# Altium footprint library GPSDevice.PcbLib: 30 footprints (part 2 of 2)
Each footprint in its own frame and in the unit in brackets; x right, y up, seen from the top. Pads: shape width x height; smd on the part's side, far side on the other; paste and mask are expansions set on the pad; w line width, h text height; cw(c..) or ccw(c..) is an arc to the next point about the centre after c.
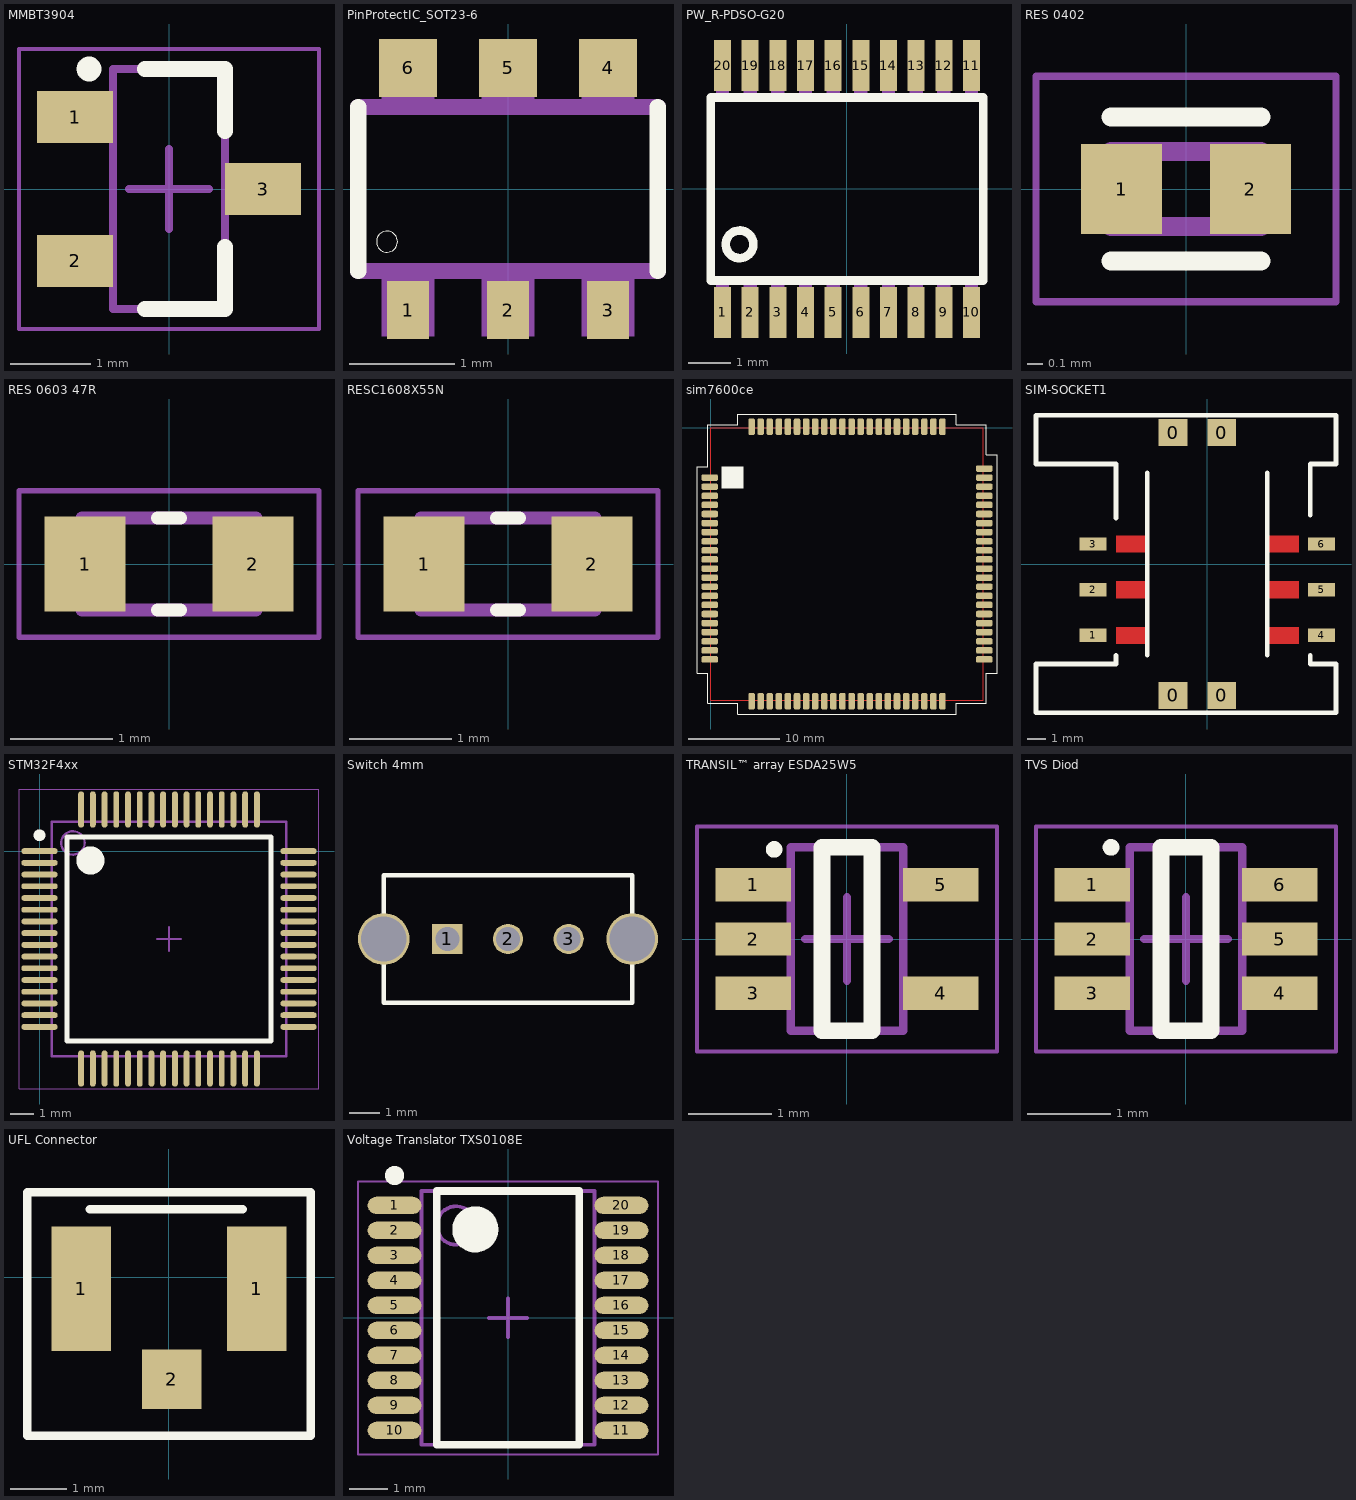
[diagram p1: the footprints below, top view; thin cyan lines are the x and y axes]

## MMBT3904 [mm] "40V NPN SMALL SIGNAL TRANSISTOR IN SOT23"
height 1.1
pads (3):
  rect 0.95x0.65 smd: 1(-1.175,0.9) 2(-1.175,-0.9) 3(1.175,0)
Top Overlay:
  circle w0.15: c-1,1.5 r0.08
  lines w0.2: -0.3,-1.5 0.7,-1.5 0.7,-0.725 ; -0.3,1.5 0.7,1.5 0.7,0.725
Mechanical 13:
  lines w0.1: -0.7,-1.5 -0.7,1.5 0.7,1.5 0.7,-1.5 -0.7,-1.5
Mechanical 15:
  lines w0.05: -1.875,-1.75 -1.875,1.75 1.875,1.75 1.875,-1.75 -1.875,-1.75
  lines w0.1: -0.5,0 0.5,0 ; 0,-0.5 0,0.5
3D body: height 1.1, standoff 0.01, extent -0.7,-1.5 0.7,1.5

## PinProtectIC_SOT23-6 [mm]
pads (6):
  rect 0.4x0.55 smd: 1(-0.95,-1.15) 2(0,-1.15) 3(0.95,-1.15)
  rect 0.55x0.55 smd: 4(0.95,1.15) 5(0,1.15) 6(-0.95,1.15)
Top Overlay:
  circle w0: c-1.15,-0.5 r0.1
  lines w0.152: -1.423,-0.781 -1.423,0.781 ; 1.422,-0.781 1.422,0.781
Mechanical 13:
  region: -0.7,-1.4 -1.2,-1.4 -1.2,-0.8 -0.7,-0.8
  region: 0.25,-1.4 -0.25,-1.4 -0.25,-0.8 0.25,-0.8
  region: 1.2,-1.4 0.7,-1.4 0.7,-0.8 1.2,-0.8
  region: 1.2,0.8 0.7,0.8 0.7,1.4 1.2,1.4
  region: 0.25,0.8 -0.25,0.8 -0.25,1.4 0.25,1.4
  region: -0.7,0.8 -1.2,0.8 -1.2,1.4 -0.7,1.4
  lines w0.152: -1.423,-0.781 1.422,-0.781 ; -1.423,0.781 1.422,0.781

## PW_R-PDSO-G20 [mm]
pads (20):
  rect 0.4x1.2 smd: 1(-2.925,-2.9) 2(-2.275,-2.9) 3(-1.625,-2.9) 4(-0.975,-2.9) 5(-0.325,-2.9) 6(0.325,-2.9) 7(0.975,-2.9) 8(1.625,-2.9) 9(2.275,-2.9) 10(2.925,-2.9) 11(2.925,2.9) 12(2.275,2.9) 13(1.625,2.9) 14(0.975,2.9) 15(0.325,2.9) 16(-0.325,2.9) 17(-0.975,2.9) 18(-1.625,2.9) 19(-2.275,2.9) 20(-2.925,2.9)
Top Overlay:
  circle w0.203: c-2.525,-1.3 r0.325
  lines w0.203: -3.2,-2.15 3.2,-2.15 3.2,2.15 -3.2,2.15 -3.2,-2.15
Mechanical 13:
  region: -2.775,-3.3 -3.075,-3.3 -3.075,-2.23 -2.775,-2.23
  region: -2.125,-3.3 -2.425,-3.3 -2.425,-2.23 -2.125,-2.23
  region: -1.475,-3.3 -1.775,-3.3 -1.775,-2.23 -1.475,-2.23
  region: -0.825,-3.3 -1.125,-3.3 -1.125,-2.23 -0.825,-2.23
  region: -0.175,-3.3 -0.475,-3.3 -0.475,-2.23 -0.175,-2.23
  region: 0.475,-3.3 0.175,-3.3 0.175,-2.23 0.475,-2.23
  region: 1.125,-3.3 0.825,-3.3 0.825,-2.23 1.125,-2.23
  region: 1.775,-3.3 1.475,-3.3 1.475,-2.23 1.775,-2.23
  region: 2.425,-3.3 2.125,-3.3 2.125,-2.23 2.425,-2.23
  region: 3.075,-3.3 2.775,-3.3 2.775,-2.23 3.075,-2.23
  region: 3.075,2.23 2.775,2.23 2.775,3.3 3.075,3.3
  region: 2.425,2.23 2.125,2.23 2.125,3.3 2.425,3.3
  region: 1.775,2.23 1.475,2.23 1.475,3.3 1.775,3.3
  region: 1.125,2.23 0.825,2.23 0.825,3.3 1.125,3.3
  region: 0.475,2.23 0.175,2.23 0.175,3.3 0.475,3.3
  region: -0.175,2.23 -0.475,2.23 -0.475,3.3 -0.175,3.3
  region: -0.825,2.23 -1.125,2.23 -1.125,3.3 -0.825,3.3
  region: -1.475,2.23 -1.775,2.23 -1.775,3.3 -1.475,3.3
  region: -2.125,2.23 -2.425,2.23 -2.425,3.3 -2.125,3.3
  region: -2.775,2.23 -3.075,2.23 -3.075,3.3 -2.775,3.3

## RES 0402 [mm]
pads (2):
  rect 0.54x0.6 smd: 1(-0.43,0) 2(0.43,0)
Top Overlay:
  lines w0.127: -0.5,-0.48 0.5,-0.48 ; -0.5,0.48 0.5,0.48
Mechanical 13:
  region: -0.25,-0.25 -0.5,-0.25 -0.5,0.25 -0.25,0.25
  region: 0.5,-0.25 0.25,-0.25 0.25,0.25 0.5,0.25
  lines w0.127: -0.5,-0.25 0.5,-0.25 0.5,0.25 -0.5,0.25 -0.5,-0.25
Mechanical 15:
  lines w0.05: -1,-0.75 1,-0.75 1,0.75 -1,0.75 -1,-0.75

## RES 0603 47R [mm]
pads (2):
  rect 0.79x0.93 smd: 1(-0.82,0) 2(0.82,0)
Top Overlay:
  lines w0.127: -0.11,-0.45 0.11,-0.45 ; -0.11,0.45 0.11,0.45
Mechanical 13:
  lines w0.127: -0.85,-0.45 -0.85,0.45 0.85,0.45 0.85,-0.45 -0.85,-0.45
Mechanical 15:
  lines w0.05: -1.465,-0.715 -1.465,0.715 1.465,0.715 1.465,-0.715 -1.465,-0.715

## RESC1608X55N [mm]
pads (2):
  rect 0.79x0.93 smd: 1(-0.82,0) 2(0.82,0)
Top Overlay:
  lines w0.127: -0.11,-0.45 0.11,-0.45 ; -0.11,0.45 0.11,0.45
Mechanical 13:
  lines w0.127: -0.85,-0.45 -0.85,0.45 0.85,0.45 0.85,-0.45 -0.85,-0.45
Mechanical 15:
  lines w0.05: -1.465,-0.715 -1.465,0.715 1.465,0.715 1.465,-0.715 -1.465,-0.715

## sim7600ce [mm] "Module sim 7600CE"
pads (87):
  rrect50% 1.8x0.72 smd: 1(-0.1,-5.5) 1(30.1,-4.5) 2(-0.1,-6.5) 2(30.1,-5.5) 3(-0.1,-7.5) 3(30.1,-6.5) 4(-0.1,-8.5) 4(30.1,-7.5) 5(-0.1,-9.5) 5(30.1,-8.5) 6(-0.1,-10.5) 6(30.1,-9.5) 7(-0.1,-11.5) 7(30.1,-10.5) 8(-0.1,-12.5) 8(30.1,-11.5) 9(-0.1,-13.5) 9(30.1,-12.5) 10(-0.1,-14.5) 10(30.1,-13.5) 11(-0.1,-15.5) 11(30.1,-14.5) 12(-0.1,-16.5) 12(30.1,-15.5) 13(-0.1,-17.5) 13(30.1,-16.5) 14(-0.1,-18.5) 14(30.1,-17.5) 15(-0.1,-19.5) 15(30.1,-18.5) 16(-0.1,-20.5) 16(30.1,-19.5) 17(-0.1,-21.5) 17(30.1,-20.5) 18(-0.1,-22.5) 18(30.1,-21.5) 19(-0.1,-23.5) 19(30.1,-22.5) 20(-0.1,-24.5) 20(30.1,-23.5) 21(-0.1,-25.5) 21(30.1,-25.5) 21(30.1,-24.5)
  rrect50% 0.72x1.8 smd: 1(4.5,-30.1) 1(4.5,0.1) 2(5.5,-30.1) 2(5.5,0.1) 3(6.5,-30.1) 3(6.5,0.1) 4(7.5,-30.1) 4(7.5,0.1) 5(8.5,-30.1) 5(8.5,0.1) 6(9.5,-30.1) 6(9.5,0.1) 7(10.5,-30.1) 7(10.5,0.1) 8(11.5,-30.1) 8(11.5,0.1) 9(12.5,-30.1) 9(12.5,0.1) 10(13.5,-30.1) 10(13.5,0.1) 11(14.5,-30.1) 11(14.5,0.1) 12(15.5,-30.1) 12(15.5,0.1) 13(16.5,-30.1) 13(16.5,0.1) 14(17.5,-30.1) 14(17.5,0.1) 15(18.5,-30.1) 15(18.5,0.1) 16(19.5,-30.1) 16(19.5,0.1) 17(20.5,-30.1) 17(20.5,0.1) 18(21.5,-30.1) 18(21.5,0.1) 19(22.5,-30.1) 19(22.5,0.1) 20(23.5,-30.1) 20(23.5,0.1) 21(24.5,-30.1) 21(24.5,0.1) 21(25.5,0.1) 22(25.5,-30.1)
Top Layer:
  lines w0.1: 0,-30 0,0 30,0 30,-30 0,-30
Top Overlay:
  rectangle: 1.2,-6.7 3.6,-4.3
  lines w0.1: -1.5,-27 -1.5,-4.3 -0.3,-4.3 -0.3,0.3 3,0.3 3,1.5 27,1.5 27,0.3 30.3,0.3 30.3,-3 31.5,-3 31.5,-27 30.3,-27 30.3,-30.3 27,-30.3 27,-31.5 3,-31.5 3,-30.3 -0.3,-30.3 -0.3,-27 -1.5,-27

## SIM-SOCKET1 [mm]
pads (10):
  rect 1.6x1.5 smd: 0(-1.905,-7.302) 0(-1.905,7.302) 0(0.794,-7.302) 0(0.794,7.302)
  rect 1.5x0.75 smd: 1(-6.35,-3.969) 2(-6.35,-1.429) 3(-6.35,1.111) 4(6.35,-3.969) 5(6.35,-1.429) 6(6.35,1.111)
Top Layer:
  region: 5.08,1.587 3.334,1.588 3.334,0.635 5.08,0.635
  region: 5.08,-0.953 3.334,-0.952 3.334,-1.905 5.08,-1.905
  region: 5.08,-3.492 3.334,-3.492 3.334,-4.445 5.08,-4.445
  rectangle: -5.08,-4.445 -3.334,-3.492
  rectangle: -5.08,-1.905 -3.334,-0.953
  rectangle: -5.08,0.635 -3.334,1.587
Top Overlay:
  lines w0.254: -5.08,-5.08 -5.08,-5.556 -9.525,-5.556 -9.525,-8.255 7.144,-8.255 7.144,-5.556 5.715,-5.556 5.715,-5.08 ; -5.08,2.54 -5.08,5.556 -9.525,5.556 -9.525,8.255 7.144,8.255 7.144,5.556 5.715,5.556 5.715,2.699 ; -3.334,-5.08 -3.334,5.08 ; 3.334,-5.08 3.334,5.08

## STM32F4xx [mm]
pads (64):
  oval 1.55x0.25 smd: 1(0,0) 2(0,-0.5) 3(0,-1) 4(0,-1.5) 5(0,-2) 6(0,-2.5) 7(0,-3) 8(0,-3.5) 9(0,-4) 10(0,-4.5) 11(0,-5) 12(0,-5.5) 13(0,-6) 14(0,-6.5) 15(0,-7) 16(0,-7.5) 33(11.05,-7.5) 34(11.05,-7) 35(11.05,-6.5) 36(11.05,-6) 37(11.05,-5.5) 38(11.05,-5) 39(11.05,-4.5) 40(11.05,-4) 41(11.05,-3.5) 42(11.05,-3) 43(11.05,-2.5) 44(11.05,-2) 45(11.05,-1.5) 46(11.05,-1) 47(11.05,-0.5) 48(11.05,0)
  oval 0.25x1.55 smd: 17(1.775,-9.275) 18(2.275,-9.275) 19(2.775,-9.275) 20(3.275,-9.275) 21(3.775,-9.275) 22(4.275,-9.275) 23(4.775,-9.275) 24(5.275,-9.275) 25(5.775,-9.275) 26(6.275,-9.275) 27(6.775,-9.275) 28(7.275,-9.275) 29(7.775,-9.275) 30(8.275,-9.275) 31(8.775,-9.275) 32(9.275,-9.275) 49(9.275,1.775) 50(8.775,1.775) 51(8.275,1.775) 52(7.775,1.775) 53(7.275,1.775) 54(6.775,1.775) 55(6.275,1.775) 56(5.775,1.775) 57(5.275,1.775) 58(4.775,1.775) 59(4.275,1.775) 60(3.775,1.775) 61(3.275,1.775) 62(2.775,1.775) 63(2.275,1.775) 64(1.775,1.775)
Top Overlay:
  circle w0.25: c0,0.675 r0.125
  circle w0.6: c2.175,-0.4 r0.3
  lines w0.2: 1.175,-8.1 1.175,0.6 9.875,0.6 9.875,-8.1 1.175,-8.1
Mechanical 13:
  circle w0.1: c1.425,0.35 r0.5
  lines w0.1: 0.525,-8.75 0.525,1.25 10.525,1.25 10.525,-8.75 0.525,-8.75
Mechanical 15:
  lines w0.05: -0.875,-10.15 -0.875,2.65 11.925,2.65 11.925,-10.15 -0.875,-10.15
  lines w0.1: 5.025,-3.75 6.025,-3.75 ; 5.525,-4.25 5.525,-3.25
3D body: height 1.6, standoff 0.05, extent 0.525,-8.75 10.525,1.25

## Switch 4mm [mm]
pads (5):
  rect 1x1 hole 0.8: 1(-15,25)
  round 1 hole 0.8: 2(-13,25) 3(-11,25)
  round 1.7 hole 1.5: ""(-17.1,25) ""(-8.9,25)
Top Overlay:
  lines w0.15: -17.1,22.9 -17.1,27.1 -8.9,27.1 -8.9,22.9 -17.1,22.9

## TRANSIL™ array ESDA25W5 [mm] "SOT23, 5-Leads, Body 2.00x2.10mm, Pitch 0.65mm, IPC Medium Density"
height 1.1
pads (5):
  rect 0.9x0.4 smd: 1(-1.125,0.65) 2(-1.125,0) 3(-1.125,-0.65) 4(1.125,-0.65) 5(1.125,0.65)
Top Overlay:
  circle w0.1: c-0.875,1.075 r0.05
  lines w0.2: -0.3,-1.1 0.3,-1.1 0.3,1.1 -0.3,1.1 -0.3,-1.1
Mechanical 13:
  lines w0.1: -0.675,-1.1 -0.675,1.1 0.675,1.1 0.675,-1.1 -0.675,-1.1
Mechanical 15:
  lines w0.05: -1.8,-1.35 -1.8,1.35 1.8,1.35 1.8,-1.35 -1.8,-1.35
  lines w0.1: -0.5,0 0.5,0 ; 0,-0.5 0,0.5
3D body: height 1.1, standoff 0, extent -0.675,-1.1 0.675,1.1

## TVS Diod [mm] "TVS Diod SOT323-6L"
height 1.1
pads (6):
  rect 0.9x0.4 smd: 1(-1.125,0.65) 2(-1.125,0) 3(-1.125,-0.65) 4(1.125,-0.65) 5(1.125,0) 6(1.125,0.65)
Top Overlay:
  circle w0.1: c-0.9,1.1 r0.05
  lines w0.2: -0.3,-1.1 0.3,-1.1 0.3,1.1 -0.3,1.1 -0.3,-1.1
Mechanical 13:
  lines w0.1: -0.675,-1.1 -0.675,1.1 0.675,1.1 0.675,-1.1 -0.675,-1.1
Mechanical 15:
  lines w0.05: -1.8,-1.35 -1.8,1.35 1.8,1.35 1.8,-1.35 -1.8,-1.35
  lines w0.1: -0.5,0 0.5,0 ; 0,-0.5 0,0.5
3D body: height 1.1, standoff 0, extent -0.675,-1.1 0.675,1.1

## UFL Connector [mm]
pads (3):
  rect 1.05x2.2 smd: 1(-1.55,-0.2) 1(1.55,-0.2)
  rect 1.05x1.05 smd: 2(0.05,-1.8)
Top Overlay:
  lines w0.15: -1.4,1.2 1.3,1.2 ; -2.5,-2.8 2.5,-2.8 2.5,1.5 -2.5,1.5 -2.5,-2.8

## Voltage Translator TXS0108E [mm] "TSOP, 20-Leads, Body 6.50x4.40mm, Pitch 0.65mm, IPC Medium Density"
height 1.2
pads (20):
  oval 1.4x0.45 smd: 1(-2.95,2.925) 2(-2.95,2.275) 3(-2.95,1.625) 4(-2.95,0.975) 5(-2.95,0.325) 6(-2.95,-0.325) 7(-2.95,-0.975) 8(-2.95,-1.625) 9(-2.95,-2.275) 10(-2.95,-2.925) 11(2.95,-2.925) 12(2.95,-2.275) 13(2.95,-1.625) 14(2.95,-0.975) 15(2.95,-0.325) 16(2.95,0.325) 17(2.95,0.975) 18(2.95,1.625) 19(2.95,2.275) 20(2.95,2.925)
Top Overlay:
  circle w0.6: c-0.85,2.3 r0.3
  circle w0.25: c-2.95,3.7 r0.125
  lines w0.2: -1.85,-3.3 1.85,-3.3 1.85,3.3 -1.85,3.3 -1.85,-3.3
Mechanical 13:
  circle w0.1: c-1.35,2.4 r0.5
  lines w0.1: -2.25,-3.3 2.25,-3.3 2.25,3.3 -2.25,3.3 -2.25,-3.3
Mechanical 15:
  lines w0.05: -3.9,-3.55 3.9,-3.55 3.9,3.55 -3.9,3.55 -3.9,-3.55
  lines w0.1: -0.5,0 0.5,0 ; 0,-0.5 0,0.5
3D body: height 1.2, standoff 0.15, extent -2.25,-3.3 2.25,3.3